# Altium schematic symbol library BAT-HLD-001.SchLib: 1 symbol
Pins are listed as number, name and electrical type; pins without a type are passive.

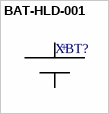
[diagram p0: symbol BAT-HLD-001]

## BAT-HLD-001
designator XBT?  (value not drawn)
CR2032 Phosphor Bronze / Nickel Plated 20 mm Cell Size Battery Holder; MF: Linx Technologies; MP: BAT-HLD-001; Package: None; Availability: Unavailable; SnapEDA_Link: https://www.snapeda.com/parts/BAT-HLD-001/Linx%20Technologies%20Inc./view-part/?ref=snap; Price: None; Value: *
footprint *BAT-HLD-001_BAT-HLD-001(Primary)
pins: +@1 (io), +@2 (io), NEG (io)
text: +